# EAGLE library part 24FC1025 (library sjunglib)
24FC1025 I2C EEPROM Manufacturer: Microchip Vcc: 2.5-5.5V Capacity: 1Mb (128KB) Erase cycles: 1 million I2C address: 1010BAA (B is block select) Note: A2 is not configurable, and must be connected to Vcc, so it is hidden from the symbol.
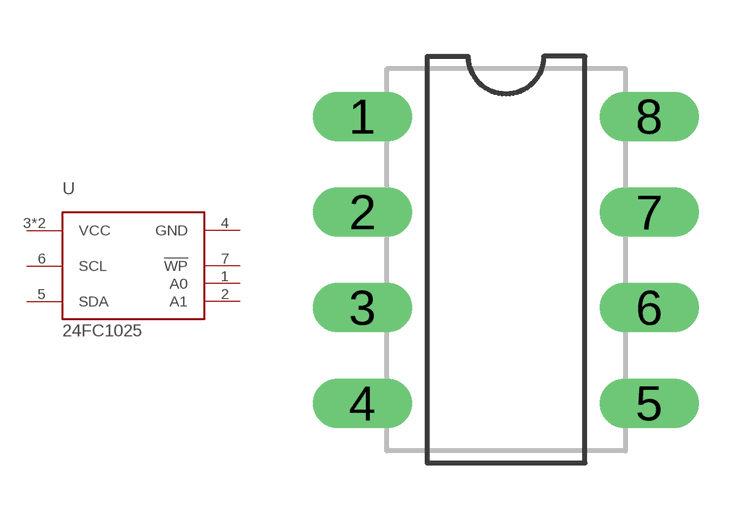
[diagram p3: symbol with the pads of DIP-8; footprint DIP-8]

Designator prefix U

## 24FC1025-I/P  [DIP-8]
1  A0  in
2  A1  in
3  VCC  pwr
4  GND  pwr
5  SDA
6  SCL
7  !WP  in
8  VCC  pwr

## Footprint DIP-8 (pad centres in mm)
DIP-8 Body width: 0.3" (300mil / 7.62mm) Pitch: 0.1" (100mil / 2.54mm) Drill spacing: 0.3" (300mil / 7.62mm) Drill dia: 0.032" (32mil / 0.8128mm) Documented dims: 0.4 x 0.25" (without leadframe) Documented leads: 0.02 x 0.03" (body width at top of leadframe, pin width at bottom of lead) JEDEC: MS-001 EIA:
drill 0.813 long: 1 -3.81,3.81; 2 -3.81,1.27; 3 -3.81,-1.27; 4 -3.81,-3.81; 5 3.81,-3.81; 6 3.81,-1.27; 7 3.81,1.27; 8 3.81,3.81